# Altium schematic symbol library TPS2590-QFN16.SchLib: 1 symbol
Pins are listed as number, name and electrical type; pins without a type are passive.

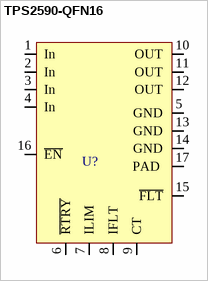
[diagram p0: symbol TPS2590-QFN16]

## TPS2590-QFN16
designator U?  (value not drawn)
pins: 1 In, 2 In, 3 In, 4 In, 5 GND, 6 ~{RTRY}, 7 ILIM, 8 IFLT, 9 CT, 10 OUT, 11 OUT, 12 OUT, 13 GND, 14 GND, 15 ~{FLT}, 16 ~{EN}, 17 PAD 